# Altium footprint library LED_0402.PcbLib: 1 footprints
Each footprint in its own frame and in the unit in brackets; x right, y up, seen from the top. Pads: shape width x height; smd on the part's side, far side on the other; paste and mask are expansions set on the pad; w line width, h text height; cw(c..) or ccw(c..) is an arc to the next point about the centre after c.
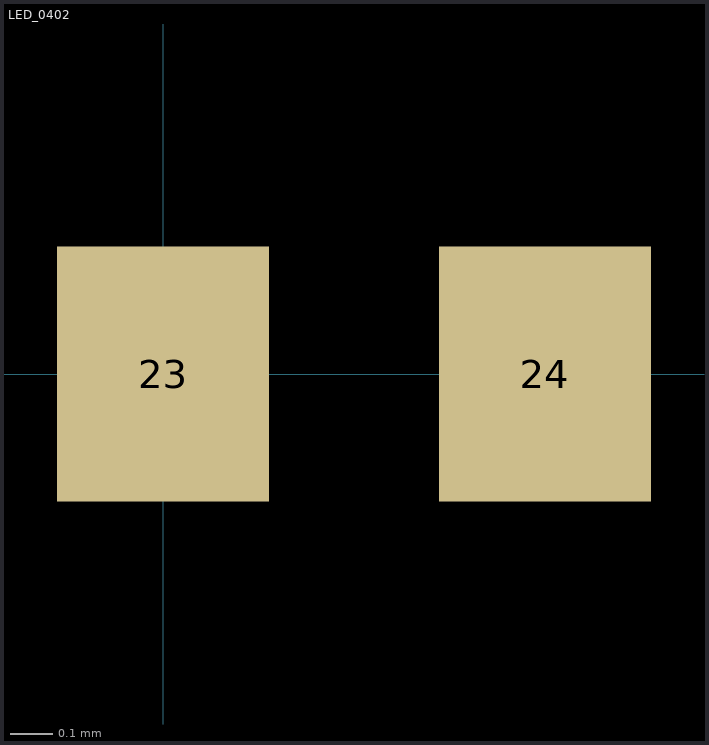
[diagram p0: the footprint, top view; thin cyan lines are the x and y axes]

## LED_0402 [mm]
pads (2):
  rect 0.5x0.6 smd: 23(0,0) 24(0.9,0)
3D body: height 0.26, standoff 0, extent 0.381,-0.127 0.508,0.127
3D body: height 0.25, standoff 0, extent 0,-0.254 0.889,0.254